# Altium footprint library Processors.PcbLib: 3 footprints (part 1 of 2)
Each footprint in its own frame and in the unit in brackets; x right, y up, seen from the top. Pads: shape width x height; smd on the part's side, far side on the other; paste and mask are expansions set on the pad; w line width, h text height; cw(c..) or ccw(c..) is an arc to the next point about the centre after c.
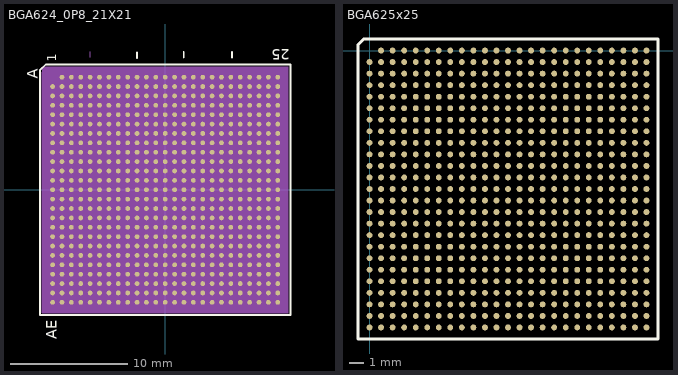
[diagram p0: the footprints below, top view; thin cyan lines are the x and y axes]

## BGA624_0P8_21X21 [mil] "BGA624_0P8_21X21"
pads (624):
  round 16 smd: A2(-346.46,377.95) A3(-314.96,377.95) A4(-283.46,377.95) A5(-251.97,377.95) A6(-220.47,377.95) A7(-188.98,377.95) A8(-157.48,377.95) A9(-125.98,377.95) A10(-94.49,377.95) A11(-62.99,377.95) A12(-31.5,377.95) A13(0,377.95) A14(31.5,377.95) A15(62.99,377.95) A16(94.49,377.95) A17(125.98,377.95) A18(157.48,377.95) A19(188.98,377.95) A20(220.47,377.95) A21(251.97,377.95) A22(283.46,377.95) A23(314.96,377.95) A24(346.46,377.95) A25(377.95,377.95) AA1(-377.95,-251.97) AA2(-346.46,-251.97) AA3(-314.96,-251.97) AA4(-283.46,-251.97) AA5(-251.97,-251.97) AA6(-220.47,-251.97) AA7(-188.98,-251.97) AA8(-157.48,-251.97) AA9(-125.98,-251.97) AA10(-94.49,-251.97) AA11(-62.99,-251.97) AA12(-31.5,-251.97) AA13(0,-251.97) AA14(31.5,-251.97) AA15(62.99,-251.97) AA16(94.49,-251.97) AA17(125.98,-251.97) AA18(157.48,-251.97) AA19(188.98,-251.97) AA20(220.47,-251.97) AA21(251.97,-251.97) AA22(283.46,-251.97) AA23(314.96,-251.97) AA24(346.46,-251.97) AA25(377.95,-251.97) AB1(-377.95,-283.46) AB2(-346.46,-283.46) AB3(-314.96,-283.46) AB4(-283.46,-283.46) AB5(-251.97,-283.46) AB6(-220.47,-283.46) AB7(-188.98,-283.46) AB8(-157.48,-283.46) AB9(-125.98,-283.46) AB10(-94.49,-283.46) AB11(-62.99,-283.46) AB12(-31.5,-283.46) AB13(0,-283.46) AB14(31.5,-283.46) AB15(62.99,-283.46) AB16(94.49,-283.46) AB17(125.98,-283.46) AB18(157.48,-283.46) AB19(188.98,-283.46) AB20(220.47,-283.46) AB21(251.97,-283.46) AB22(283.46,-283.46) AB23(314.96,-283.46) AB24(346.46,-283.46) AB25(377.95,-283.46) AC1(-377.95,-314.96) AC2(-346.46,-314.96) AC3(-314.96,-314.96) AC4(-283.46,-314.96) AC5(-251.97,-314.96) AC6(-220.47,-314.96) AC7(-188.98,-314.96) AC8(-157.48,-314.96) AC9(-125.98,-314.96) AC10(-94.49,-314.96) AC11(-62.99,-314.96) AC12(-31.5,-314.96) AC13(0,-314.96) AC14(31.5,-314.96) AC15(62.99,-314.96) AC16(94.49,-314.96) AC17(125.98,-314.96) AC18(157.48,-314.96) AC19(188.98,-314.96) AC20(220.47,-314.96) AC21(251.97,-314.96) AC22(283.46,-314.96) AC23(314.96,-314.96) AC24(346.46,-314.96) AC25(377.95,-314.96) AD1(-377.95,-346.46) AD2(-346.46,-346.46) AD3(-314.96,-346.46) AD4(-283.46,-346.46) AD5(-251.97,-346.46) AD6(-220.47,-346.46) AD7(-188.98,-346.46) AD8(-157.48,-346.46) AD9(-125.98,-346.46) AD10(-94.49,-346.46) AD11(-62.99,-346.46) AD12(-31.5,-346.46) AD13(0,-346.46) AD14(31.5,-346.46) AD15(62.99,-346.46) AD16(94.49,-346.46) AD17(125.98,-346.46) AD18(157.48,-346.46) AD19(188.98,-346.46) AD20(220.47,-346.46) AD21(251.97,-346.46) AD22(283.46,-346.46) AD23(314.96,-346.46) AD24(346.46,-346.46) AD25(377.95,-346.46) AE1(-377.95,-377.95) AE2(-346.46,-377.95) AE3(-314.96,-377.95) AE4(-283.46,-377.95) AE5(-251.97,-377.95) AE6(-220.47,-377.95) AE7(-188.98,-377.95) AE8(-157.48,-377.95) AE9(-125.98,-377.95) AE10(-94.49,-377.95) AE11(-62.99,-377.95) AE12(-31.5,-377.95) AE13(0,-377.95) AE14(31.5,-377.95) AE15(62.99,-377.95) AE16(94.49,-377.95) AE17(125.98,-377.95) AE18(157.48,-377.95) AE19(188.98,-377.95) AE20(220.47,-377.95) AE21(251.97,-377.95) AE22(283.46,-377.95) AE23(314.96,-377.95) AE24(346.46,-377.95) AE25(377.95,-377.95) B1(-377.95,346.46) B2(-346.46,346.46) B3(-314.96,346.46) B4(-283.46,346.46) B5(-251.97,346.46) B6(-220.47,346.46) B7(-188.98,346.46) B8(-157.48,346.46) B9(-125.98,346.46) B10(-94.49,346.46) B11(-62.99,346.46) B12(-31.5,346.46) B13(0,346.46) B14(31.5,346.46) B15(62.99,346.46) B16(94.49,346.46) B17(125.98,346.46) B18(157.48,346.46) B19(188.98,346.46) B20(220.47,346.46) B21(251.97,346.46) B22(283.46,346.46) B23(314.96,346.46) B24(346.46,346.46) B25(377.95,346.46) C1(-377.95,314.96) C2(-346.46,314.96) C3(-314.96,314.96) C4(-283.46,314.96) C5(-251.97,314.96) C6(-220.47,314.96) C7(-188.98,314.96) C8(-157.48,314.96) C9(-125.98,314.96) C10(-94.49,314.96) C11(-62.99,314.96) C12(-31.5,314.96) C13(0,314.96) C14(31.5,314.96) C15(62.99,314.96) C16(94.49,314.96) C17(125.98,314.96) C18(157.48,314.96) C19(188.98,314.96) C20(220.47,314.96) C21(251.97,314.96) C22(283.46,314.96) C23(314.96,314.96) C24(346.46,314.96) C25(377.95,314.96) D1(-377.95,283.46) D2(-346.46,283.46) D3(-314.96,283.46) D4(-283.46,283.46) D5(-251.97,283.46) D6(-220.47,283.46) D7(-188.98,283.46) D8(-157.48,283.46) D9(-125.98,283.46) D10(-94.49,283.46) D11(-62.99,283.46) D12(-31.5,283.46) D13(0,283.46) D14(31.5,283.46) D15(62.99,283.46) D16(94.49,283.46) D17(125.98,283.46) D18(157.48,283.46) D19(188.98,283.46) D20(220.47,283.46) D21(251.97,283.46) D22(283.46,283.46) D23(314.96,283.46) D24(346.46,283.46) D25(377.95,283.46) E1(-377.95,251.97) E2(-346.46,251.97) E3(-314.96,251.97) E4(-283.46,251.97) E5(-251.97,251.97) E6(-220.47,251.97) E7(-188.98,251.97) E8(-157.48,251.97) E9(-125.98,251.97) E10(-94.49,251.97) E11(-62.99,251.97) E12(-31.5,251.97) E13(0,251.97) E14(31.5,251.97) E15(62.99,251.97) E16(94.49,251.97) E17(125.98,251.97) E18(157.48,251.97) E19(188.98,251.97) E20(220.47,251.97) E21(251.97,251.97) E22(283.46,251.97) E23(314.96,251.97) E24(346.46,251.97) E25(377.95,251.97) F1(-377.95,220.47) F2(-346.46,220.47) F3(-314.96,220.47) F4(-283.46,220.47) F5(-251.97,220.47) F6(-220.47,220.47) F7(-188.98,220.47) F8(-157.48,220.47) F9(-125.98,220.47) F10(-94.49,220.47) F11(-62.99,220.47) F12(-31.5,220.47) F13(0,220.47) F14(31.5,220.47) F15(62.99,220.47) F16(94.49,220.47) F17(125.98,220.47) F18(157.48,220.47) F19(188.98,220.47) F20(220.47,220.47) F21(251.97,220.47) F22(283.46,220.47) F23(314.96,220.47) F24(346.46,220.47) F25(377.95,220.47) G1(-377.95,188.98) G2(-346.46,188.98) G3(-314.96,188.98) G4(-283.46,188.98) G5(-251.97,188.98) G6(-220.47,188.98) G7(-188.98,188.98) G8(-157.48,188.98) G9(-125.98,188.98) G10(-94.49,188.98) G11(-62.99,188.98) G12(-31.5,188.98) G13(0,188.98) G14(31.5,188.98) G15(62.99,188.98) G16(94.49,188.98) G17(125.98,188.98) G18(157.48,188.98) G19(188.98,188.98) G20(220.47,188.98) G21(251.97,188.98) G22(283.46,188.98) G23(314.96,188.98) G24(346.46,188.98) G25(377.95,188.98) H1(-377.95,157.48) H2(-346.46,157.48) H3(-314.96,157.48) H4(-283.46,157.48) H5(-251.97,157.48) H6(-220.47,157.48) H7(-188.98,157.48) H8(-157.48,157.48) H9(-125.98,157.48) H10(-94.49,157.48) H11(-62.99,157.48) H12(-31.5,157.48) H13(0,157.48) H14(31.5,157.48) H15(62.99,157.48) H16(94.49,157.48) H17(125.98,157.48) H18(157.48,157.48) H19(188.98,157.48) H20(220.47,157.48) H21(251.97,157.48) H22(283.46,157.48) H23(314.96,157.48) H24(346.46,157.48) H25(377.95,157.48) J1(-377.95,125.98) J2(-346.46,125.98) J3(-314.96,125.98) J4(-283.46,125.98) J5(-251.97,125.98) J6(-220.47,125.98) J7(-188.98,125.98) J8(-157.48,125.98) J9(-125.98,125.98) J10(-94.49,125.98) J11(-62.99,125.98) J12(-31.5,125.98) J13(0,125.98) J14(31.5,125.98) J15(62.99,125.98) J16(94.49,125.98) J17(125.98,125.98) J18(157.48,125.98) J19(188.98,125.98) J20(220.47,125.98) J21(251.97,125.98) J22(283.46,125.98) J23(314.96,125.98) J24(346.46,125.98) J25(377.95,125.98) K1(-377.95,94.49) K2(-346.46,94.49) K3(-314.96,94.49) K4(-283.46,94.49) K5(-251.97,94.49) K6(-220.47,94.49) K7(-188.98,94.49) K8(-157.48,94.49) K9(-125.98,94.49) K10(-94.49,94.49) K11(-62.99,94.49) K12(-31.5,94.49) K13(0,94.49) K14(31.5,94.49) K15(62.99,94.49) K16(94.49,94.49) K17(125.98,94.49) K18(157.48,94.49) K19(188.98,94.49) K20(220.47,94.49) K21(251.97,94.49) K22(283.46,94.49) K23(314.96,94.49) K24(346.46,94.49) K25(377.95,94.49) L1(-377.95,62.99) L2(-346.46,62.99) L3(-314.96,62.99) L4(-283.46,62.99) L5(-251.97,62.99) L6(-220.47,62.99) L7(-188.98,62.99) L8(-157.48,62.99) L9(-125.98,62.99) L10(-94.49,62.99) L11(-62.99,62.99) L12(-31.5,62.99) L13(0,62.99) L14(31.5,62.99) L15(62.99,62.99) L16(94.49,62.99) L17(125.98,62.99) L18(157.48,62.99) L19(188.98,62.99) L20(220.47,62.99) L21(251.97,62.99) L22(283.46,62.99) L23(314.96,62.99) L24(346.46,62.99) L25(377.95,62.99) M1(-377.95,31.5) M2(-346.46,31.5) M3(-314.96,31.5) M4(-283.46,31.5) M5(-251.97,31.5) M6(-220.47,31.5) M7(-188.98,31.5) M8(-157.48,31.5) M9(-125.98,31.5) M10(-94.49,31.5) M11(-62.99,31.5) M12(-31.5,31.5) M13(0,31.5) M14(31.5,31.5) M15(62.99,31.5) M16(94.49,31.5) M17(125.98,31.5) M18(157.48,31.5) M19(188.98,31.5) M20(220.47,31.5) M21(251.97,31.5) M22(283.46,31.5) M23(314.96,31.5) M24(346.46,31.5) M25(377.95,31.5) N1(-377.95,0) N2(-346.46,0) N3(-314.96,0) N4(-283.46,0) N5(-251.97,0) N6(-220.47,0) N7(-188.98,0) N8(-157.48,0) N9(-125.98,0) N10(-94.49,0) N11(-62.99,0) N12(-31.5,0) N13(0,0) N14(31.5,0) N15(62.99,0) N16(94.49,0) N17(125.98,0) N18(157.48,0) N19(188.98,0) N20(220.47,0) N21(251.97,0) N22(283.46,0) N23(314.96,0) N24(346.46,0) N25(377.95,0) P1(-377.95,-31.5) P2(-346.46,-31.5) P3(-314.96,-31.5) P4(-283.46,-31.5) P5(-251.97,-31.5) P6(-220.47,-31.5) P7(-188.98,-31.5) P8(-157.48,-31.5) P9(-125.98,-31.5) P10(-94.49,-31.5) P11(-62.99,-31.5) P12(-31.5,-31.5) P13(0,-31.5) P14(31.5,-31.5) P15(62.99,-31.5) P16(94.49,-31.5) P17(125.98,-31.5) P18(157.48,-31.5) P19(188.98,-31.5) P20(220.47,-31.5) P21(251.97,-31.5) P22(283.46,-31.5) P23(314.96,-31.5) P24(346.46,-31.5) P25(377.95,-31.5) R1(-377.95,-62.99) R2(-346.46,-62.99) R3(-314.96,-62.99) R4(-283.46,-62.99) R5(-251.97,-62.99) R6(-220.47,-62.99) R7(-188.98,-62.99) R8(-157.48,-62.99) R9(-125.98,-62.99) R10(-94.49,-62.99) R11(-62.99,-62.99) R12(-31.5,-62.99) R13(0,-62.99) R14(31.5,-62.99) R15(62.99,-62.99) R16(94.49,-62.99) R17(125.98,-62.99) R18(157.48,-62.99) R19(188.98,-62.99) R20(220.47,-62.99) R21(251.97,-62.99) R22(283.46,-62.99) R23(314.96,-62.99) R24(346.46,-62.99) R25(377.95,-62.99) T1(-377.95,-94.49) T2(-346.46,-94.49) T3(-314.96,-94.49) T4(-283.46,-94.49) T5(-251.97,-94.49) T6(-220.47,-94.49) T7(-188.98,-94.49) T8(-157.48,-94.49) T9(-125.98,-94.49) T10(-94.49,-94.49) T11(-62.99,-94.49) T12(-31.5,-94.49) T13(0,-94.49) T14(31.5,-94.49) T15(62.99,-94.49) T16(94.49,-94.49) T17(125.98,-94.49) T18(157.48,-94.49) T19(188.98,-94.49) T20(220.47,-94.49) T21(251.97,-94.49) T22(283.46,-94.49) T23(314.96,-94.49) T24(346.46,-94.49) T25(377.95,-94.49) U1(-377.95,-125.98) U2(-346.46,-125.98) U3(-314.96,-125.98) U4(-283.46,-125.98) U5(-251.97,-125.98) U6(-220.47,-125.98) U7(-188.98,-125.98) U8(-157.48,-125.98) U9(-125.98,-125.98) U10(-94.49,-125.98) U11(-62.99,-125.98) U12(-31.5,-125.98) U13(0,-125.98) U14(31.5,-125.98) U15(62.99,-125.98) U16(94.49,-125.98) U17(125.98,-125.98) U18(157.48,-125.98) U19(188.98,-125.98) U20(220.47,-125.98) U21(251.97,-125.98) U22(283.46,-125.98) U23(314.96,-125.98) U24(346.46,-125.98) U25(377.95,-125.98) V1(-377.95,-157.48) V2(-346.46,-157.48) V3(-314.96,-157.48) V4(-283.46,-157.48) V5(-251.97,-157.48) V6(-220.47,-157.48) V7(-188.98,-157.48) V8(-157.48,-157.48) V9(-125.98,-157.48) V10(-94.49,-157.48) V11(-62.99,-157.48) V12(-31.5,-157.48) V13(0,-157.48) V14(31.5,-157.48) V15(62.99,-157.48) V16(94.49,-157.48) V17(125.98,-157.48) V18(157.48,-157.48) V19(188.98,-157.48) V20(220.47,-157.48) V21(251.97,-157.48) V22(283.46,-157.48) V23(314.96,-157.48) V24(346.46,-157.48) V25(377.95,-157.48) W1(-377.95,-188.98) W2(-346.46,-188.98) W3(-314.96,-188.98) W4(-283.46,-188.98) W5(-251.97,-188.98) W6(-220.47,-188.98) W7(-188.98,-188.98) W8(-157.48,-188.98) W9(-125.98,-188.98) W10(-94.49,-188.98) W11(-62.99,-188.98) W12(-31.5,-188.98) W13(0,-188.98) W14(31.5,-188.98) W15(62.99,-188.98) W16(94.49,-188.98) W17(125.98,-188.98) W18(157.48,-188.98) W19(188.98,-188.98) W20(220.47,-188.98) W21(251.97,-188.98) W22(283.46,-188.98) W23(314.96,-188.98) W24(346.46,-188.98) W25(377.95,-188.98) Y1(-377.95,-220.47) Y2(-346.46,-220.47) Y3(-314.96,-220.47) Y4(-283.46,-220.47) Y5(-251.97,-220.47) Y6(-220.47,-220.47) Y7(-188.98,-220.47) Y8(-157.48,-220.47) Y9(-125.98,-220.47) Y10(-94.49,-220.47) Y11(-62.99,-220.47) Y12(-31.5,-220.47) Y13(0,-220.47) Y14(31.5,-220.47) Y15(62.99,-220.47) Y16(94.49,-220.47) Y17(125.98,-220.47) Y18(157.48,-220.47) Y19(188.98,-220.47) Y20(220.47,-220.47) Y21(251.97,-220.47) Y22(283.46,-220.47) Y23(314.96,-220.47) Y24(346.46,-220.47) Y25(377.95,-220.47)
Top Overlay:
  lines w6: -94.41,442.01 -94.41,461.1 -94.06,461.46 ; 61.97,443.23 61.97,462.32 62.32,462.68 ; 223.82,442.76 223.82,461.85 224.17,462.2 ; -420.39,-420.39 420.39,-420.39 420.39,420.39 -400.7,420.39 -420.39,400.7 -420.39,-420.39
  text ".Designator" at -438.33,-344 h35
  text "AE" at -363.33,-501 h35
  text "A" at -428.33,372.5 h35
  text "1" at -366,429 h31
  text "25" at 418.95,471.05 h35
Bottom Overlay:
  lines w6: -251.34,444.33 -251.34,463.43 -250.98,463.78 ; -94.37,442.24 -94.37,461.34 -94.02,461.69 ; 62.01,443.46 62.01,462.56 62.36,462.91
Mechanical 16:
  circle w1: c-387.52,384.02 r11.89
  region: -413.39,-413.39 413.39,-413.39 413.39,413.39 -413.39,413.39
  lines w1: -251.54,444.25 -251.54,463.35 -251.18,463.7 ; -94.57,442.17 -94.57,461.26 -94.21,461.61 ; -10,0 10,0 ; 0,-10 0,10 ; 61.81,443.39 61.81,462.48 62.17,462.83 ; 223.66,442.91 223.66,462.01 224.02,462.36 ; -413.39,-413.39 413.39,-413.39 413.39,413.39 -393.7,413.39 -413.39,393.7 -413.39,-413.39
Mechanical 23:
  text "AA4" at -283.46,-263.97 h10
  text "AA3" at -314.96,-263.97 h10
  text "W2" at -346.46,-196.98 h10
  text "W1" at -377.95,-196.98 h10
  text "D10" at -94.49,271.46 h10
  text "J19" at 188.98,113.98 h10
  text "R2" at -346.46,-70.99 h10
  text "W4" at -283.46,-196.98 h10
  text "V21" at 251.97,-169.48 h10
  text "D12" at -31.5,271.46 h10
  text "W21" at 251.97,-200.98 h10
  text "V22" at 283.46,-169.48 h10
  text "C8" at -157.48,306.96 h10
  text "U9" at -125.98,-133.98 h10
  text "T9" at -125.98,-102.49 h10
  text "R14" at 31.5,-74.99 h10
  text "R9" at -125.98,-70.99 h10
  text "P14" at 31.5,-43.5 h10
  text "P9" at -125.98,-39.5 h10
  text "N14" at 31.5,-12 h10
  text "N9" at -125.98,-8 h10
  text "M14" at 31.5,19.5 h10
  text "M9" at -125.98,23.5 h10
  text "L14" at 31.5,50.99 h10
  text "L9" at -125.98,54.99 h10
  text "K14" at 31.5,82.49 h10
  text "K9" at -125.98,86.49 h10
  text "J14" at 31.5,113.98 h10
  text "H14" at 31.5,145.48 h10
  text "C16" at 94.49,302.96 h10
  text "F15" at 62.99,208.47 h10
  text "E2" at -346.46,243.97 h10
  text "E1" at -377.95,243.97 h10
  text "F2" at -346.46,212.47 h10
  text "F1" at -377.95,212.47 h10
  text "B21" at 251.97,334.46 h10
  text "D20" at 220.47,271.46 h10
  text "E19" at 188.98,239.97 h10
  text "F18" at 157.48,208.47 h10
  text "E3" at -314.96,243.97 h10
  text "F3" at -314.96,212.47 h10
  text "E4" at -283.46,243.97 h10
  text "D1" at -377.95,275.46 h10
  text "D2" at -346.46,275.46 h10
  text "F4" at -283.46,212.47 h10
  text "R5" at -251.97,-70.99 h10
  text "R1" at -377.95,-70.99 h10
  text "R3" at -314.96,-70.99 h10
  text "R4" at -283.46,-70.99 h10
  text "T1" at -377.95,-102.49 h10
  text "T4" at -283.46,-102.49 h10
  text "V5" at -251.97,-165.48 h10
  text "R6" at -220.47,-70.99 h10
  text "T2" at -346.46,-102.49 h10
  text "P5" at -251.97,-39.5 h10
  text "T6" at -220.47,-102.49 h10
  text "E15" at 62.99,239.97 h10
  text "P19" at 188.98,-43.5 h10
  text "P7" at -188.98,-39.5 h10
  text "J7" at -188.98,117.98 h10
  text "G17" at 125.98,176.98 h10
  text "G15" at 62.99,176.98 h10
  text "G14" at 31.5,176.98 h10
  text "M19" at 188.98,19.5 h10
  text "L19" at 188.98,50.99 h10
  text "K19" at 188.98,82.49 h10
  text "F22" at 283.46,208.47 h10
  text "W20" at 220.47,-200.98 h10
  text "U16" at 94.49,-137.98 h10
  text "T16" at 94.49,-106.49 h10
  text "R16" at 94.49,-74.99 h10
  text "P16" at 94.49,-43.5 h10
  text "N16" at 94.49,-12 h10
  text "M16" at 94.49,19.5 h10
  text "L16" at 94.49,50.99 h10
  text "K16" at 94.49,82.49 h10
  text "J16" at 94.49,113.98 h10
  text "H16" at 94.49,145.48 h10
  text "G11" at -62.99,176.98 h10
  text "AE17" at 125.98,-393.95 h10
  text "R19" at 188.98,-74.99 h10
  text "M1" at -377.95,23.5 h10
  text "M3" at -314.96,23.5 h10
  text "B16" at 94.49,334.46 h10
  text "K2" at -346.46,86.49 h10
  text "P6" at -220.47,-39.5 h10
  text "H7" at -188.98,149.48 h10
  text "G7" at -188.98,180.98 h10
  text "L7" at -188.98,54.99 h10
  text "M7" at -188.98,23.5 h10
  text "G12" at -31.5,176.98 h10
  text "G13" at 0,176.98 h10
  text "G9" at -125.98,180.98 h10
  text "P4" at -283.46,-39.5 h10
  text "AD14" at 31.5,-362.46 h10
  text "G6" at -220.47,180.98 h10
  text "V18" at 157.48,-169.48 h10
  text "V17" at 125.98,-169.48 h10
  text "V16" at 94.49,-169.48 h10
  text "V15" at 62.99,-169.48 h10
  text "V14" at 31.5,-169.48 h10
  text "V13" at 0,-169.48 h10
  text "V12" at -31.5,-169.48 h10
  text "V11" at -62.99,-169.48 h10
  text "V10" at -94.49,-169.48 h10
  text "V9" at -125.98,-165.48 h10
  text "U18" at 157.48,-137.98 h10
  text "T18" at 157.48,-106.49 h10
  text "R18" at 157.48,-74.99 h10
  text "Y11" at -62.99,-232.47 h10
  text "L4" at -283.46,54.99 h10
  text "AA15" at 62.99,-267.97 h10
  text "D15" at 62.99,271.46 h10
  text "AC20" at 220.47,-330.96 h10
  text "H21" at 251.97,145.48 h10
  text "AE10" at -94.49,-393.95 h10
  text "AD25" at 377.95,-362.46 h10
  text "AB6" at -220.47,-295.46 h10
  text "B20" at 220.47,334.46 h10
  text "AB4" at -283.46,-295.46 h10
  text "N1" at -377.95,-8 h10
  text "AC3" at -314.96,-326.96 h10
  text "R7" at -188.98,-70.99 h10
  text "D17" at 125.98,271.46 h10
  text "Y8" at -157.48,-228.47 h10
  text "L21" at 251.97,50.99 h10
  text "F16" at 94.49,208.47 h10
  text "AC7" at -188.98,-326.96 h10
  text "Y22" at 283.46,-232.47 h10
  text "AC15" at 62.99,-330.96 h10
  text "A16" at 94.49,365.95 h10
  text "Y15" at 62.99,-232.47 h10
  text "Y21" at 251.97,-232.47 h10
  text "V3" at -314.96,-165.48 h10
  text "Y10" at -94.49,-232.47 h10
  text "W5" at -251.97,-196.98 h10
  text "AC24" at 346.46,-330.96 h10
  text "G24" at 346.46,176.98 h10
  text "V4" at -283.46,-165.48 h10
  text "AE6" at -220.47,-389.95 h10
  text "C21" at 251.97,302.96 h10
  text "AB11" at -62.99,-299.46 h10
  text "C18" at 157.48,302.96 h10
  text "V1" at -377.95,-165.48 h10
  text "AA18" at 157.48,-267.97 h10
  text "AB16" at 94.49,-299.46 h10
  text "T21" at 251.97,-106.49 h10
  text "E17" at 125.98,239.97 h10
  text "V2" at -346.46,-165.48 h10
  text "AE12" at -31.5,-393.95 h10
  text "K6" at -220.47,86.49 h10
  text "AA5" at -251.97,-263.97 h10
  text "B18" at 157.48,334.46 h10
  text "U3" at -314.96,-133.98 h10
  text "AE16" at 94.49,-393.95 h10
  text "K23" at 314.96,82.49 h10
  text "AC13" at 0,-330.96 h10
  text "W23" at 314.96,-200.98 h10
  text "A19" at 188.98,365.95 h10
  text "U4" at -283.46,-133.98 h10
  text "Y12" at -31.5,-232.47 h10
  text "E9" at -125.98,243.97 h10
  text "B7" at -188.98,338.46 h10
  text "AA17" at 125.98,-267.97 h10
  text "T23" at 314.96,-106.49 h10
  text "A7" at -188.98,369.95 h10
  text "U1" at -377.95,-133.98 h10
  text "AC17" at 125.98,-330.96 h10
  text "AE15" at 62.99,-393.95 h10
  text "V23" at 314.96,-169.48 h10
  text "U2" at -346.46,-133.98 h10
  text "AB8" at -157.48,-295.46 h10
  text "K4" at -283.46,86.49 h10
  text "AA25" at 377.95,-267.97 h10
  text "AC19" at 188.98,-330.96 h10
  text "AA12" at -31.5,-267.97 h10
  text "C20" at 220.47,302.96 h10
  text "AD23" at 314.96,-362.46 h10
  text "AB23" at 314.96,-299.46 h10
  text "D21" at 251.97,271.46 h10
  text "AC22" at 283.46,-330.96 h10
  text "U6" at -220.47,-133.98 h10
  text "AA20" at 220.47,-267.97 h10
  text "AB25" at 377.95,-299.46 h10
  text "AC4" at -283.46,-326.96 h10
  text "J21" at 251.97,113.98 h10
  text "AE20" at 220.47,-393.95 h10
  text "D16" at 94.49,271.46 h10
  text "AC11" at -62.99,-330.96 h10
  text "J3" at -314.96,117.98 h10
  text "AD8" at -157.48,-358.46 h10
  text "E12" at -31.5,239.97 h10
  text "AA6" at -220.47,-263.97 h10
  text "AD15" at 62.99,-362.46 h10
  text "D18" at 157.48,271.46 h10
  text "AC2" at -346.46,-326.96 h10
  text "T5" at -251.97,-102.49 h10
  text "C9" at -125.98,306.96 h10
  text "AD6" at -220.47,-358.46 h10
  text "D9" at -125.98,275.46 h10
  text "AC8" at -157.48,-326.96 h10
  text "Y2" at -346.46,-228.47 h10
  text "AC9" at -125.98,-326.96 h10
  text "E11" at -62.99,239.97 h10
  text "Y7" at -188.98,-228.47 h10
  text "AC12" at -31.5,-330.96 h10
  text "AD5" at -251.97,-358.46 h10
  text "N22" at 283.46,-12 h10
  text "AB7" at -188.98,-295.46 h10
  text "B13" at 0,334.46 h10
  text "L1" at -377.95,54.99 h10
  text "Y13" at 0,-232.47 h10
  text "AE18" at 157.48,-393.95 h10
  text "Y4" at -283.46,-228.47 h10
  text "AC25" at 377.95,-330.96 h10
  text "T3" at -314.96,-102.49 h10
  text "Y23" at 314.96,-232.47 h10
  text "J5" at -251.97,117.98 h10
  text "AD9" at -125.98,-358.46 h10
  text "Y9" at -125.98,-228.47 h10
  text "AE5" at -251.97,-389.95 h10
  text "L6" at -220.47,54.99 h10
  text "AD21" at 251.97,-362.46 h10
  text "H22" at 283.46,145.48 h10
  text "AB19" at 188.98,-299.46 h10
  text "C19" at 188.98,302.96 h10
  text "AE21" at 251.97,-393.95 h10
  text "AB2" at -346.46,-295.46 h10
  text "AA24" at 346.46,-267.97 h10
  text "G1" at -377.95,180.98 h10
  text "AE24" at 346.46,-393.95 h10
  text "AA23" at 314.96,-267.97 h10
  text "A22" at 283.46,365.95 h10
  text "AC6" at -220.47,-326.96 h10
  text "AA1" at -377.95,-263.97 h10
  text "Y14" at 31.5,-232.47 h10
  text "K3" at -314.96,86.49 h10
  text "Y18" at 157.48,-232.47 h10
  text "B24" at 346.46,334.46 h10
  text "AB21" at 251.97,-299.46 h10
  text "P22" at 283.46,-43.5 h10
  text "AE14" at 31.5,-393.95 h10
  text "P25" at 377.95,-43.5 h10
  text "Y16" at 94.49,-232.47 h10
  text "W6" at -220.47,-196.98 h10
  text "AD3" at -314.96,-358.46 h10
  text "AC14" at 31.5,-330.96 h10
  text "E23" at 314.96,239.97 h10
  text "AB20" at 220.47,-299.46 h10
  text "D7" at -188.98,275.46 h10
  text "AC5" at -251.97,-326.96 h10
  text "F14" at 31.5,208.47 h10
  text "AE2" at -346.46,-389.95 h10
  text "H3" at -314.96,149.48 h10
  text "Y25" at 377.95,-232.47 h10
  text "C17" at 125.98,302.96 h10
  text "AD12" at -31.5,-362.46 h10
  text "C24" at 346.46,302.96 h10
  text "AA14" at 31.5,-267.97 h10
  text "C12" at -31.5,302.96 h10
  text "AD20" at 220.47,-362.46 h10
  text "AA8" at -157.48,-263.97 h10
  text "AB18" at 157.48,-299.46 h10
  text "C13" at 0,302.96 h10
  text "AC18" at 157.48,-330.96 h10
  text "AA9" at -125.98,-263.97 h10
  text "AC1" at -377.95,-326.96 h10
  text "U5" at -251.97,-133.98 h10
  text "AB22" at 283.46,-299.46 h10
  text "AB5" at -251.97,-295.46 h10
  text "E21" at 251.97,239.97 h10
  text "AB10" at -94.49,-299.46 h10
  text "T22" at 283.46,-106.49 h10
  text "W14" at 31.5,-200.98 h10
  text "F11" at -62.99,208.47 h10
  text "P23" at 314.96,-43.5 h10
  text "AB14" at 31.5,-299.46 h10
  text "T24" at 346.46,-106.49 h10
  text "AC10" at -94.49,-330.96 h10
  text "AB12" at -31.5,-299.46 h10
  text "AC21" at 251.97,-330.96 h10
  text "H19" at 188.98,145.48 h10
  text "AE13" at 0,-393.95 h10
  text "AD24" at 346.46,-362.46 h10
  text "K21" at 251.97,82.49 h10
  text "AD1" at -377.95,-358.46 h10
  text "N4" at -283.46,-8 h10
  text "Y17" at 125.98,-232.47 h10
  text "N21" at 251.97,-12 h10
  text "B6" at -220.47,338.46 h10
  text "H23" at 314.96,145.48 h10
  text "F23" at 314.96,208.47 h10
  text "A21" at 251.97,365.95 h10
  text "H25" at 377.95,145.48 h10
  text "R21" at 251.97,-74.99 h10
  text "D22" at 283.46,271.46 h10
  text "T7" at -188.98,-102.49 h10
  text "A23" at 314.96,365.95 h10
  text "U22" at 283.46,-137.98 h10
  text "M20" at 220.47,19.5 h10
  text "B19" at 188.98,334.46 h10
  text "E10" at -94.49,239.97 h10
  text "A17" at 125.98,365.95 h10
  text "D25" at 377.95,271.46 h10
  text "L20" at 220.47,50.99 h10
  text "C14" at 31.5,302.96 h10
  text "J25" at 377.95,113.98 h10
  text "K22" at 283.46,82.49 h10
  text "R23" at 314.96,-74.99 h10
  text "G25" at 377.95,176.98 h10
  text "U20" at 220.47,-137.98 h10
  text "F24" at 346.46,208.47 h10
  text "J20" at 220.47,113.98 h10
  text "F13" at 0,208.47 h10
  text "R24" at 346.46,-74.99 h10
  text "N6" at -220.47,-8 h10
  text "G21" at 251.97,176.98 h10
  text "F25" at 377.95,208.47 h10
  text "R20" at 220.47,-74.99 h10
  text "J24" at 346.46,113.98 h10
  text "C11" at -62.99,302.96 h10
  text "G4" at -283.46,180.98 h10
  text "A3" at -314.96,369.95 h10
  text "U21" at 251.97,-137.98 h10
  text "E20" at 220.47,239.97 h10
  text "E14" at 31.5,239.97 h10
  text "R22" at 283.46,-74.99 h10
  text "D13" at 0,271.46 h10
  text "D23" at 314.96,271.46 h10
  text "V6" at -220.47,-165.48 h10
  text "A18" at 157.48,365.95 h10
  text "L23" at 314.96,50.99 h10
  text "D19" at 188.98,271.46 h10
  text "J6" at -220.47,117.98 h10
  text "D14" at 31.5,271.46 h10
  text "L25" at 377.95,50.99 h10
  text "G8" at -157.48,180.98 h10
  text "M24" at 346.46,19.5 h10
  text "F10" at -94.49,208.47 h10
  text "E25" at 377.95,239.97 h10
  text "C2" at -346.46,306.96 h10
  text "J23" at 314.96,113.98 h10
  text "C23" at 314.96,302.96 h10
  text "T20" at 220.47,-106.49 h10
  text "F21" at 251.97,208.47 h10
  text "K20" at 220.47,82.49 h10
  text "V25" at 377.95,-169.48 h10
  text "H1" at -377.95,149.48 h10
  text "D11" at -62.99,271.46 h10
  text "B12" at -31.5,334.46 h10
  text "G22" at 283.46,176.98 h10
  text "C22" at 283.46,302.96 h10
  text "L3" at -314.96,54.99 h10
  text "Y3" at -314.96,-228.47 h10
  text "B17" at 125.98,334.46 h10
  text "C25" at 377.95,302.96 h10
  text "E18" at 157.48,239.97 h10
  text "M25" at 377.95,19.5 h10
  text "A14" at 31.5,365.95 h10
  text "P20" at 220.47,-43.5 h10
  text "E8" at -157.48,243.97 h10
  text "U24" at 346.46,-137.98 h10
  text "J4" at -283.46,117.98 h10
  text "G20" at 220.47,176.98 h10
  text "N19" at 188.98,-12 h10
  text "M22" at 283.46,19.5 h10
  text "J9" at -125.98,117.98 h10
  text "H9" at -125.98,149.48 h10
  text "N3" at -314.96,-8 h10
  text "N20" at 220.47,-12 h10
  text "M4" at -283.46,23.5 h10
  text "H6" at -220.47,149.48 h10
  text "AA2" at -346.46,-263.97 h10
  text "K7" at -188.98,86.49 h10
  text "C7" at -188.98,306.96 h10
  text "J10" at -94.49,113.98 h10
  text "H10" at -94.49,145.48 h10
  text "H5" at -251.97,149.48 h10
  text "E13" at 0,239.97 h10
  text "B1" at -377.95,338.46 h10
  text "D4" at -283.46,275.46 h10
  text "U14" at 31.5,-137.98 h10
  text "U13" at 0,-137.98 h10
  text "U10" at -94.49,-137.98 h10
  text "T14" at 31.5,-106.49 h10
  text "T13" at 0,-106.49 h10
  text "T10" at -94.49,-106.49 h10
  text "R10" at -94.49,-74.99 h10
  text "N12" at -31.5,-12 h10
  text "M23" at 314.96,19.5 h10
  text "K1" at -377.95,86.49 h10
  text "V20" at 220.47,-169.48 h10
  text "K24" at 346.46,82.49 h10
  text "A20" at 220.47,365.95 h10
  text "J1" at -377.95,117.98 h10
  text "N7" at -188.98,-8 h10
  text "N2" at -346.46,-8 h10
  text "U23" at 314.96,-137.98 h10
  text "P24" at 346.46,-43.5 h10
  text "W22" at 283.46,-200.98 h10
  text "Y1" at -377.95,-228.47 h10
  text "B15" at 62.99,334.46 h10
  text "B23" at 314.96,334.46 h10
  text "B25" at 377.95,334.46 h10
  text "G5" at -251.97,180.98 h10
  text "B22" at 283.46,334.46 h10
  text "A24" at 346.46,365.95 h10
  text "W24" at 346.46,-200.98 h10
  text "G2" at -346.46,180.98 h10
  text "P2" at -346.46,-39.5 h10
  text "G23" at 314.96,176.98 h10
  text "B14" at 31.5,334.46 h10
  text "P17" at 125.98,-43.5 h10
  text "N17" at 125.98,-12 h10
  text "M17" at 125.98,19.5 h10
  text "L17" at 125.98,50.99 h10
  text "K17" at 125.98,82.49 h10
  text "J17" at 125.98,113.98 h10
  text "H17" at 125.98,145.48 h10
  text "K5" at -251.97,86.49 h10
  text "G16" at 94.49,176.98 h10
  text "K25" at 377.95,82.49 h10
  text "D24" at 346.46,271.46 h10
  text "T25" at 377.95,-106.49 h10
  text "G18" at 157.48,176.98 h10
  text "A15" at 62.99,365.95 h10
  text "R13" at 0,-74.99 h10
  text "R11" at -62.99,-74.99 h10
  text "P13" at 0,-43.5 h10
  text "P11" at -62.99,-43.5 h10
  text "N13" at 0,-12 h10
  text "N11" at -62.99,-12 h10
  text "M13" at 0,19.5 h10
  text "M11" at -62.99,19.5 h10
  text "L13" at 0,50.99 h10
  text "L11" at -62.99,50.99 h10
  text "K13" at 0,82.49 h10
  text "K11" at -62.99,82.49 h10
  text "J13" at 0,113.98 h10
  text "J11" at -62.99,113.98 h10
  text "H13" at 0,145.48 h10
  text "H11" at -62.99,145.48 h10
  text "U7" at -188.98,-133.98 h10
  text "R25" at 377.95,-74.99 h10
  text "H2" at -346.46,149.48 h10
  text "M6" at -220.47,23.5 h10
  text "B3" at -314.96,338.46 h10
  text "AB1" at -377.95,-295.46 h10
  text "E24" at 346.46,239.97 h10
  text "F12" at -31.5,208.47 h10
  text "F9" at -125.98,212.47 h10
  text "F17" at 125.98,208.47 h10
  text "P3" at -314.96,-39.5 h10
  text "H24" at 346.46,145.48 h10
  text "F20" at 220.47,208.47 h10
  text "N23" at 314.96,-12 h10
  text "M5" at -251.97,23.5 h10
  text "N5" at -251.97,-8 h10
  text "A6" at -220.47,369.95 h10
  text "E16" at 94.49,239.97 h10
  text "U25" at 377.95,-137.98 h10
  text "N25" at 377.95,-12 h10
  text "P21" at 251.97,-43.5 h10
  text "N24" at 346.46,-12 h10
  text "E22" at 283.46,239.97 h10
  text "A2" at -346.46,369.95 h10
  text "AE23" at 314.96,-393.95 h10
  text "F19" at 188.98,208.47 h10
  text "P1" at -377.95,-39.5 h10
  text "AE3" at -314.96,-389.95 h10
  text "B2" at -346.46,338.46 h10
  text "AB15" at 62.99,-299.46 h10
  text "J22" at 283.46,113.98 h10
  text "AE22" at 283.46,-393.95 h10
  text "L24" at 346.46,50.99 h10
  text "AB9" at -125.98,-295.46 h10
  text "L22" at 283.46,50.99 h10
  text "AE8" at -157.48,-389.95 h10
  text "A12" at -31.5,365.95 h10
  text "AD11" at -62.99,-362.46 h10
  text "C3" at -314.96,306.96 h10
  text "AA21" at 251.97,-267.97 h10
  text "H4" at -283.46,149.48 h10
  text "AC16" at 94.49,-330.96 h10
  text "V7" at -188.98,-165.48 h10
  text "AD2" at -346.46,-358.46 h10
  text "AE4" at -283.46,-389.95 h10
  text "V24" at 346.46,-169.48 h10
  text "AE19" at 188.98,-393.95 h10
  text "Y19" at 188.98,-232.47 h10
  text "C15" at 62.99,302.96 h10
  text "W25" at 377.95,-200.98 h10
  text "M2" at -346.46,23.5 h10
  text "AB13" at 0,-299.46 h10
  text "AC23" at 314.96,-330.96 h10
  text "AE11" at -62.99,-393.95 h10
  text "Y20" at 220.47,-232.47 h10
  text "AE7" at -188.98,-389.95 h10
  text "AD18" at 157.48,-362.46 h10
  text "M21" at 251.97,19.5 h10
  text "Y6" at -220.47,-228.47 h10
  text "H20" at 220.47,145.48 h10
  text "AE9" at -125.98,-389.95 h10
  text "F8" at -157.48,212.47 h10
  text "AE25" at 377.95,-393.95 h10
  text "AE1" at -377.95,-389.95 h10
  text "AD22" at 283.46,-362.46 h10
  text "AD19" at 188.98,-362.46 h10
  text "AD16" at 94.49,-362.46 h10
  text "AD13" at 0,-362.46 h10
  text "AD10" at -94.49,-362.46 h10
  text "AD7" at -188.98,-358.46 h10
  text "AD4" at -283.46,-358.46 h10
  text "AB24" at 346.46,-299.46 h10
  text "AB3" at -314.96,-295.46 h10
  text "AA22" at 283.46,-267.97 h10
  text "AA19" at 188.98,-267.97 h10
  text "AA16" at 94.49,-267.97 h10
  text "AA13" at 0,-267.97 h10
  text "AA10" at -94.49,-267.97 h10
  text "AA7" at -188.98,-263.97 h10
  text "Y24" at 346.46,-232.47 h10
  text "Y5" at -251.97,-228.47 h10
  text "W19" at 188.98,-200.98 h10
  text "W18" at 157.48,-200.98 h10
  text "W17" at 125.98,-200.98 h10
  text "W16" at 94.49,-200.98 h10
  text "W15" at 62.99,-200.98 h10
  text "W13" at 0,-200.98 h10
  text "W12" at -31.5,-200.98 h10
  text "W11" at -62.99,-200.98 h10
  text "W10" at -94.49,-200.98 h10
  text "W9" at -125.98,-196.98 h10
  text "W8" at -157.48,-196.98 h10
  text "W7" at -188.98,-196.98 h10
  text "W3" at -314.96,-196.98 h10
  text "V19" at 188.98,-169.48 h10
  text "V8" at -157.48,-165.48 h10
  text "U19" at 188.98,-137.98 h10
  text "U17" at 125.98,-137.98 h10
  text "U15" at 62.99,-137.98 h10
  text "U12" at -31.5,-137.98 h10
  text "U11" at -62.99,-137.98 h10
  text "U8" at -157.48,-133.98 h10
  text "T19" at 188.98,-106.49 h10
  text "T17" at 125.98,-106.49 h10
  text "T15" at 62.99,-106.49 h10
  text "T12" at -31.5,-106.49 h10
  text "T11" at -62.99,-106.49 h10
  text "T8" at -157.48,-102.49 h10
  text "R17" at 125.98,-74.99 h10
  text "R15" at 62.99,-74.99 h10
  text "R12" at -31.5,-74.99 h10
  text "R8" at -157.48,-70.99 h10
  text "P18" at 157.48,-43.5 h10
  text "P15" at 62.99,-43.5 h10
  text "P12" at -31.5,-43.5 h10
  text "P10" at -94.49,-43.5 h10
  text "P8" at -157.48,-39.5 h10
  text "N18" at 157.48,-12 h10
  text "N15" at 62.99,-12 h10
  text "N10" at -94.49,-12 h10
  text "N8" at -157.48,-8 h10
  text "M18" at 157.48,19.5 h10
  text "M15" at 62.99,19.5 h10
  text "M12" at -31.5,19.5 h10
  text "M10" at -94.49,19.5 h10
  text "M8" at -157.48,23.5 h10
  text "L18" at 157.48,50.99 h10
  text "L15" at 62.99,50.99 h10
  text "L12" at -31.5,50.99 h10
  text "L10" at -94.49,50.99 h10
  text "L8" at -157.48,54.99 h10
  text "L5" at -251.97,54.99 h10
  text "L2" at -346.46,54.99 h10
  text "K18" at 157.48,82.49 h10
  text "K15" at 62.99,82.49 h10
  text "K12" at -31.5,82.49 h10
  text "K10" at -94.49,82.49 h10
  text "K8" at -157.48,86.49 h10
  text "J18" at 157.48,113.98 h10
  text "J15" at 62.99,113.98 h10
  text "J12" at -31.5,113.98 h10
  text "J8" at -157.48,117.98 h10
  text "J2" at -346.46,117.98 h10
  text "H18" at 157.48,145.48 h10
  text "H15" at 62.99,145.48 h10
  text "H12" at -31.5,145.48 h10
  text "H8" at -157.48,149.48 h10
  text "G19" at 188.98,176.98 h10
  text "G10" at -94.49,176.98 h10
  text "G3" at -314.96,180.98 h10
  text "F7" at -188.98,212.47 h10
  text "F6" at -220.47,212.47 h10
  text "F5" at -251.97,212.47 h10
  text "E6" at -220.47,243.97 h10
  text "E5" at -251.97,243.97 h10
  text "D8" at -157.48,275.46 h10
  text "E7" at -188.98,243.97 h10
  text "D6" at -220.47,275.46 h10
  text "D3" at -314.96,275.46 h10
  text "C10" at -94.49,302.96 h10
  text "C6" at -220.47,306.96 h10
  text "C4" at -283.46,306.96 h10
  text "C1" at -377.95,306.96 h10
  text "B5" at -251.97,338.46 h10
  text "B4" at -283.46,338.46 h10
  text "A25" at 377.95,365.95 h10
  text "A13" at 0,365.95 h10
  text "A8" at -157.48,369.95 h10
  text "A5" at -251.97,369.95 h10
  text "A4" at -283.46,369.95 h10
  text "AB17" at 125.98,-299.46 h10
  text "AA11" at -62.99,-267.97 h10
  text "AD17" at 125.98,-362.46 h10
  text "B8" at -157.48,338.46 h10
  text "D5" at -251.97,275.46 h10
  text "C5" at -251.97,306.96 h10
  text "B9" at -125.98,338.46 h10
  text "A9" at -125.98,369.95 h10
  text "A10" at -94.49,365.95 h10
  text "B10" at -94.49,334.46 h10
  text "B11" at -62.99,334.46 h10
  text "A11" at -62.99,365.95 h10
Mechanical 28:
  text "A" at -424,393 h10
  text "B" at -450.48,329.52 h10
  text "C" at -452.17,298.39 h10
  text "D" at -453,269.24 h10
  text "E" at -450.43,241.1 h10
  text "F" at -453.67,204.2 h10
  text "G" at -450.43,176.14 h10
  text "H" at -452.84,141.49 h10
  text "J" at -452.68,112.8 h10
  text "K" at -451.58,79.2 h10
  text "L" at -450.28,51.57 h10
  text "M" at -448,22 h10
  text "N" at -449.76,-10.59 h10
  text "P" at -449.17,-41.77 h10
  text "R" at -449.25,-73.5 h10
  text "T" at -449.41,-106.46 h10
  text "U" at -447.95,-137.91 h10
  text "V" at -449.92,-169.65 h10
  text "W" at -450.51,-201.1 h10
  text "Y" at -447.68,-231.97 h10
  text "AA" at -452.61,-266.17 h10
  text "AB" at -451.66,-295.13 h10
  text "AC" at -455.13,-322.15 h10
  text "AD" at -456.11,-351.66 h10
  text "AE" at -422,-409 h10
  text "1" at -396,421 h10
  text "25" at 378,425 h10

## BGA625x25 [mil]
pads (624):
  round 16 smd: A2(31.5,0) A3(62.99,0) A4(94.49,0) A5(125.98,0) A6(157.48,0) A7(188.98,0) A8(220.47,0) A9(251.97,0) A10(283.46,0) A11(314.96,0) A12(346.46,0) A13(377.95,0) A14(409.45,0) A15(440.95,0) A16(472.44,0) A17(503.94,0) A18(535.43,0) A19(566.93,0) A20(598.43,0) A21(629.92,0) A22(661.42,0) A23(692.91,0) A24(724.41,0) A25(755.91,0) AA1(0,-629.92) AA2(31.5,-629.92) AA3(62.99,-629.92) AA4(94.49,-629.92) AA5(125.98,-629.92) AA6(157.48,-629.92) AA7(188.98,-629.92) AA8(220.47,-629.92) AA9(251.97,-629.92) AA10(283.46,-629.92) AA11(314.96,-629.92) AA12(346.46,-629.92) AA13(377.95,-629.92) AA14(409.45,-629.92) AA15(440.95,-629.92) AA16(472.44,-629.92) AA17(503.94,-629.92) AA18(535.43,-629.92) AA19(566.93,-629.92) AA20(598.43,-629.92) AA21(629.92,-629.92) AA22(661.42,-629.92) AA23(692.91,-629.92) AA24(724.41,-629.92) AA25(755.91,-629.92) AB1(0,-661.42) AB2(31.5,-661.42) AB3(62.99,-661.42) AB4(94.49,-661.42) AB5(125.98,-661.42) AB6(157.48,-661.42) AB7(188.98,-661.42) AB8(220.47,-661.42) AB9(251.97,-661.42) AB10(283.46,-661.42) AB11(314.96,-661.42) AB12(346.46,-661.42) AB13(377.95,-661.42) AB14(409.45,-661.42) AB15(440.95,-661.42) AB16(472.44,-661.42) AB17(503.94,-661.42) AB18(535.43,-661.42) AB19(566.93,-661.42) AB20(598.43,-661.42) AB21(629.92,-661.42) AB22(661.42,-661.42) AB23(692.91,-661.42) AB24(724.41,-661.42) AB25(755.91,-661.42) AC1(0,-692.91) AC2(31.5,-692.91) AC3(62.99,-692.91) AC4(94.49,-692.91) AC5(125.98,-692.91) AC6(157.48,-692.91) AC7(188.98,-692.91) AC8(220.47,-692.91) AC9(251.97,-692.91) AC10(283.46,-692.91) AC11(314.96,-692.91) AC12(346.46,-692.91) AC13(377.95,-692.91) AC14(409.45,-692.91) AC15(440.95,-692.91) AC16(472.44,-692.91) AC17(503.94,-692.91) AC18(535.43,-692.91) AC19(566.93,-692.91) AC20(598.43,-692.91) AC21(629.92,-692.91) AC22(661.42,-692.91) AC23(692.91,-692.91) AC24(724.41,-692.91) AC25(755.91,-692.91) AD1(0,-724.41) AD2(31.5,-724.41) AD3(62.99,-724.41) AD4(94.49,-724.41) AD5(125.98,-724.41) AD6(157.48,-724.41) AD7(188.98,-724.41) AD8(220.47,-724.41) AD9(251.97,-724.41) AD10(283.46,-724.41) AD11(314.96,-724.41) AD12(346.46,-724.41) AD13(377.95,-724.41) AD14(409.45,-724.41) AD15(440.95,-724.41) AD16(472.44,-724.41) AD17(503.94,-724.41) AD18(535.43,-724.41) AD19(566.93,-724.41) AD20(598.43,-724.41) AD21(629.92,-724.41) AD22(661.42,-724.41) AD23(692.91,-724.41) AD24(724.41,-724.41) AD25(755.91,-724.41) AE1(0,-755.91) AE2(31.5,-755.91) AE3(62.99,-755.91) AE4(94.49,-755.91) AE5(125.98,-755.91) AE6(157.48,-755.91) AE7(188.98,-755.91) AE8(220.47,-755.91) AE9(251.97,-755.91) AE10(283.46,-755.91) AE11(314.96,-755.91) AE12(346.46,-755.91) AE13(377.95,-755.91) AE14(409.45,-755.91) AE15(440.95,-755.91) AE16(472.44,-755.91) AE17(503.94,-755.91) AE18(535.43,-755.91) AE19(566.93,-755.91) AE20(598.43,-755.91) AE21(629.92,-755.91) AE22(661.42,-755.91) AE23(692.91,-755.91) AE24(724.41,-755.91) AE25(755.91,-755.91) B1(0,-31.5) B2(31.5,-31.5) B3(62.99,-31.5) B4(94.49,-31.5) B5(125.98,-31.5) B6(157.48,-31.5) B7(188.98,-31.5) B8(220.47,-31.5) B9(251.97,-31.5) B10(283.46,-31.5) B11(314.96,-31.5) B12(346.46,-31.5) B13(377.95,-31.5) B14(409.45,-31.5) B15(440.95,-31.5) B16(472.44,-31.5) B17(503.94,-31.5) B18(535.43,-31.5) B19(566.93,-31.5) B20(598.43,-31.5) B21(629.92,-31.5) B22(661.42,-31.5) B23(692.91,-31.5) B24(724.41,-31.5) B25(755.91,-31.5) C1(0,-62.99) C2(31.5,-62.99) C3(62.99,-62.99) C4(94.49,-62.99) C5(125.98,-62.99) C6(157.48,-62.99) C7(188.98,-62.99) C8(220.47,-62.99) C9(251.97,-62.99) C10(283.46,-62.99) C11(314.96,-62.99) C12(346.46,-62.99) C13(377.95,-62.99) C14(409.45,-62.99) C15(440.95,-62.99) C16(472.44,-62.99) C17(503.94,-62.99) C18(535.43,-62.99) C19(566.93,-62.99) C20(598.43,-62.99) C21(629.92,-62.99) C22(661.42,-62.99) C23(692.91,-62.99) C24(724.41,-62.99) C25(755.91,-62.99) D1(0,-94.49) D2(31.5,-94.49) D3(62.99,-94.49) D4(94.49,-94.49) D5(125.98,-94.49) D6(157.48,-94.49) D7(188.98,-94.49) D8(220.47,-94.49) D9(251.97,-94.49) D10(283.46,-94.49) D11(314.96,-94.49) D12(346.46,-94.49) D13(377.95,-94.49) D14(409.45,-94.49) D15(440.95,-94.49) D16(472.44,-94.49) D17(503.94,-94.49) D18(535.43,-94.49) D19(566.93,-94.49) D20(598.43,-94.49) D21(629.92,-94.49) D22(661.42,-94.49) D23(692.91,-94.49) D24(724.41,-94.49) D25(755.91,-94.49) E1(0,-125.98) E2(31.5,-125.98) E3(62.99,-125.98) E4(94.49,-125.98) E5(125.98,-125.98) E6(157.48,-125.98) E7(188.98,-125.98) E8(220.47,-125.98) E9(251.97,-125.98) E10(283.46,-125.98) E11(314.96,-125.98) E12(346.46,-125.98) E13(377.95,-125.98) E14(409.45,-125.98) E15(440.95,-125.98) E16(472.44,-125.98) E17(503.94,-125.98) E18(535.43,-125.98) E19(566.93,-125.98) E20(598.43,-125.98) E21(629.92,-125.98) E22(661.42,-125.98) E23(692.91,-125.98) E24(724.41,-125.98) E25(755.91,-125.98) F1(0,-157.48) F2(31.5,-157.48) F3(62.99,-157.48) F4(94.49,-157.48) F5(125.98,-157.48) F6(157.48,-157.48) F7(188.98,-157.48) F8(220.47,-157.48) F9(251.97,-157.48) F10(283.46,-157.48) F11(314.96,-157.48) F12(346.46,-157.48) F13(377.95,-157.48) F14(409.45,-157.48) F15(440.95,-157.48) F16(472.44,-157.48) F17(503.94,-157.48) F18(535.43,-157.48) F19(566.93,-157.48) F20(598.43,-157.48) F21(629.92,-157.48) F22(661.42,-157.48) F23(692.91,-157.48) F24(724.41,-157.48) F25(755.91,-157.48) G1(0,-188.98) G2(31.5,-188.98) G3(62.99,-188.98) G4(94.49,-188.98) G5(125.98,-188.98) G6(157.48,-188.98) G7(188.98,-188.98) G8(220.47,-188.98) G9(251.97,-188.98) G10(283.46,-188.98) G11(314.96,-188.98) G12(346.46,-188.98) G13(377.95,-188.98) G14(409.45,-188.98) G15(440.95,-188.98) G16(472.44,-188.98) G17(503.94,-188.98) G18(535.43,-188.98) G19(566.93,-188.98) G20(598.43,-188.98) G21(629.92,-188.98) G22(661.42,-188.98) G23(692.91,-188.98) G24(724.41,-188.98) G25(755.91,-188.98) H1(0,-220.47) H2(31.5,-220.47) H3(62.99,-220.47) H4(94.49,-220.47) H5(125.98,-220.47) H6(157.48,-220.47) H7(188.98,-220.47) H8(220.47,-220.47) H9(251.97,-220.47) H10(283.46,-220.47) H11(314.96,-220.47) H12(346.46,-220.47) H13(377.95,-220.47) H14(409.45,-220.47) H15(440.95,-220.47) H16(472.44,-220.47) H17(503.94,-220.47) H18(535.43,-220.47) H19(566.93,-220.47) H20(598.43,-220.47) H21(629.92,-220.47) H22(661.42,-220.47) H23(692.91,-220.47) H24(724.41,-220.47) H25(755.91,-220.47) J1(0,-251.97) J2(31.5,-251.97) J3(62.99,-251.97) J4(94.49,-251.97) J5(125.98,-251.97) J6(157.48,-251.97) J7(188.98,-251.97) J8(220.47,-251.97) J9(251.97,-251.97) J10(283.46,-251.97) J11(314.96,-251.97) J12(346.46,-251.97) J13(377.95,-251.97) J14(409.45,-251.97) J15(440.95,-251.97) J16(472.44,-251.97) J17(503.94,-251.97) J18(535.43,-251.97) J19(566.93,-251.97) J20(598.43,-251.97) J21(629.92,-251.97) J22(661.42,-251.97) J23(692.91,-251.97) J24(724.41,-251.97) J25(755.91,-251.97) K1(0,-283.46) K2(31.5,-283.46) K3(62.99,-283.46) K4(94.49,-283.46) K5(125.98,-283.46) K6(157.48,-283.46) K7(188.98,-283.46) K8(220.47,-283.46) K9(251.97,-283.46) K10(283.46,-283.46) K11(314.96,-283.46) K12(346.46,-283.46) K13(377.95,-283.46) K14(409.45,-283.46) K15(440.95,-283.46) K16(472.44,-283.46) K17(503.94,-283.46) K18(535.43,-283.46) K19(566.93,-283.46) K20(598.43,-283.46) K21(629.92,-283.46) K22(661.42,-283.46) K23(692.91,-283.46) K24(724.41,-283.46) K25(755.91,-283.46) L1(0,-314.96) L2(31.5,-314.96) L3(62.99,-314.96) L4(94.49,-314.96) L5(125.98,-314.96) L6(157.48,-314.96) L7(188.98,-314.96) L8(220.47,-314.96) L9(251.97,-314.96) L10(283.46,-314.96) L11(314.96,-314.96) L12(346.46,-314.96) L13(377.95,-314.96) L14(409.45,-314.96) L15(440.95,-314.96) L16(472.44,-314.96) L17(503.94,-314.96) L18(535.43,-314.96) L19(566.93,-314.96) L20(598.43,-314.96) L21(629.92,-314.96) L22(661.42,-314.96) L23(692.91,-314.96) L24(724.41,-314.96) L25(755.91,-314.96) M1(0,-346.46) M2(31.5,-346.46) M3(62.99,-346.46) M4(94.49,-346.46) M5(125.98,-346.46) M6(157.48,-346.46) M7(188.98,-346.46) M8(220.47,-346.46) M9(251.97,-346.46) M10(283.46,-346.46) M11(314.96,-346.46) M12(346.46,-346.46) M13(377.95,-346.46) M14(409.45,-346.46) M15(440.95,-346.46) M16(472.44,-346.46) M17(503.94,-346.46) M18(535.43,-346.46) M19(566.93,-346.46) M20(598.43,-346.46) M21(629.92,-346.46) M22(661.42,-346.46) M23(692.91,-346.46) M24(724.41,-346.46) M25(755.91,-346.46) N1(0,-377.95) N2(31.5,-377.95) N3(62.99,-377.95) N4(94.49,-377.95) N5(125.98,-377.95) N6(157.48,-377.95) N7(188.98,-377.95) N8(220.47,-377.95) N9(251.97,-377.95) N10(283.46,-377.95) N11(314.96,-377.95) N12(346.46,-377.95) N13(377.95,-377.95) N14(409.45,-377.95) N15(440.95,-377.95) N16(472.44,-377.95) N17(503.94,-377.95) N18(535.43,-377.95) N19(566.93,-377.95) N20(598.43,-377.95) N21(629.92,-377.95) N22(661.42,-377.95) N23(692.91,-377.95) N24(724.41,-377.95) N25(755.91,-377.95) P1(0,-409.45) P2(31.5,-409.45) P3(62.99,-409.45) P4(94.49,-409.45) P5(125.98,-409.45) P6(157.48,-409.45) P7(188.98,-409.45) P8(220.47,-409.45) P9(251.97,-409.45) P10(283.46,-409.45) P11(314.96,-409.45) P12(346.46,-409.45) P13(377.95,-409.45) P14(409.45,-409.45) P15(440.95,-409.45) P16(472.44,-409.45) P17(503.94,-409.45) P18(535.43,-409.45) P19(566.93,-409.45) P20(598.43,-409.45) P21(629.92,-409.45) P22(661.42,-409.45) P23(692.91,-409.45) P24(724.41,-409.45) P25(755.91,-409.45) R1(0,-440.95) R2(31.5,-440.95) R3(62.99,-440.95) R4(94.49,-440.95) R5(125.98,-440.95) R6(157.48,-440.95) R7(188.98,-440.95) R8(220.47,-440.95) R9(251.97,-440.95) R10(283.46,-440.95) R11(314.96,-440.95) R12(346.46,-440.95) R13(377.95,-440.95) R14(409.45,-440.95) R15(440.95,-440.95) R16(472.44,-440.95) R17(503.94,-440.95) R18(535.43,-440.95) R19(566.93,-440.95) R20(598.43,-440.95) R21(629.92,-440.95) R22(661.42,-440.95) R23(692.91,-440.95) R24(724.41,-440.95) R25(755.91,-440.95) T1(0,-472.44) T2(31.5,-472.44) T3(62.99,-472.44) T4(94.49,-472.44) T5(125.98,-472.44) T6(157.48,-472.44) T7(188.98,-472.44) T8(220.47,-472.44) T9(251.97,-472.44) T10(283.46,-472.44) T11(314.96,-472.44) T12(346.46,-472.44) T13(377.95,-472.44) T14(409.45,-472.44) T15(440.95,-472.44) T16(472.44,-472.44) T17(503.94,-472.44) T18(535.43,-472.44) T19(566.93,-472.44) T20(598.43,-472.44) T21(629.92,-472.44) T22(661.42,-472.44) T23(692.91,-472.44) T24(724.41,-472.44) T25(755.91,-472.44) U1(0,-503.94) U2(31.5,-503.94) U3(62.99,-503.94) U4(94.49,-503.94) U5(125.98,-503.94) U6(157.48,-503.94) U7(188.98,-503.94) U8(220.47,-503.94) U9(251.97,-503.94) U10(283.46,-503.94) U11(314.96,-503.94) U12(346.46,-503.94) U13(377.95,-503.94) U14(409.45,-503.94) U15(440.95,-503.94) U16(472.44,-503.94) U17(503.94,-503.94) U18(535.43,-503.94) U19(566.93,-503.94) U20(598.43,-503.94) U21(629.92,-503.94) U22(661.42,-503.94) U23(692.91,-503.94) U24(724.41,-503.94) U25(755.91,-503.94) V1(0,-535.43) V2(31.5,-535.43) V3(62.99,-535.43) V4(94.49,-535.43) V5(125.98,-535.43) V6(157.48,-535.43) V7(188.98,-535.43) V8(220.47,-535.43) V9(251.97,-535.43) V10(283.46,-535.43) V11(314.96,-535.43) V12(346.46,-535.43) V13(377.95,-535.43) V14(409.45,-535.43) V15(440.95,-535.43) V16(472.44,-535.43) V17(503.94,-535.43) V18(535.43,-535.43) V19(566.93,-535.43) V20(598.43,-535.43) V21(629.92,-535.43) V22(661.42,-535.43) V23(692.91,-535.43) V24(724.41,-535.43) V25(755.91,-535.43) W1(0,-566.93) W2(31.5,-566.93) W3(62.99,-566.93) W4(94.49,-566.93) W5(125.98,-566.93) W6(157.48,-566.93) W7(188.98,-566.93) W8(220.47,-566.93) W9(251.97,-566.93) W10(283.46,-566.93) W11(314.96,-566.93) W12(346.46,-566.93) W13(377.95,-566.93) W14(409.45,-566.93) W15(440.95,-566.93) W16(472.44,-566.93) W17(503.94,-566.93) W18(535.43,-566.93) W19(566.93,-566.93) W20(598.43,-566.93) W21(629.92,-566.93) W22(661.42,-566.93) W23(692.91,-566.93) W24(724.41,-566.93) W25(755.91,-566.93) Y1(0,-598.43) Y2(31.5,-598.43) Y3(62.99,-598.43) Y4(94.49,-598.43) Y5(125.98,-598.43) Y6(157.48,-598.43) Y7(188.98,-598.43) Y8(220.47,-598.43) Y9(251.97,-598.43) Y10(283.46,-598.43) Y11(314.96,-598.43) Y12(346.46,-598.43) Y13(377.95,-598.43) Y14(409.45,-598.43) Y15(440.95,-598.43) Y16(472.44,-598.43) Y17(503.94,-598.43) Y18(535.43,-598.43) Y19(566.93,-598.43) Y20(598.43,-598.43) Y21(629.92,-598.43) Y22(661.42,-598.43) Y23(692.91,-598.43) Y24(724.41,-598.43) Y25(755.91,-598.43)
Top Overlay:
  lines w7.87: -31.5,-787.4 787.4,-787.4 787.4,31.5 -15.75,31.5 -31.5,15.75 -31.5,-787.4
3D body "imx6.STEP": height 53.58, standoff 0.08, extent -35.43,-791.34 791.34,35.43